# EAGLE library part OPAMP-6PIN (library opamp-jqi)
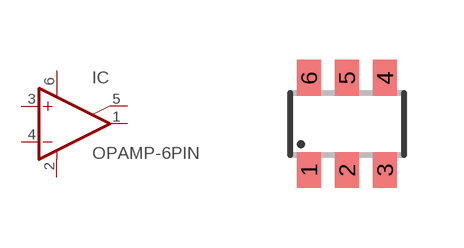
[diagram p1: symbol with the pads of SOT23-6; footprint SOT23-6]

Designator prefix IC

## OPAMP-6PIN-SOT23-6  [SOT23-6]
1  OUT  out
2  V-  pwr
3  +IN  in
4  -IN  in
5  AUX  pas
6  V+  pwr

## Footprint SOT23-6 (pad centres in mm)
SOT23-6 Package.
smd 0.6 x 0.9: 1 0,-1.15; 2 0.95,-1.15; 3 1.9,-1.15; 4 1.9,1.15; 5 0.95,1.15; 6 0,1.15